# Altium schematic symbol library HPI1260-8R0.SchLib: 1 symbol
Pins are listed as number, name and electrical type; pins without a type are passive.

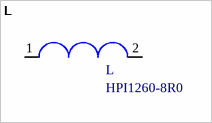
[diagram p0: symbol L]

## L
designator L, comment HPI1260-8R0
footprint INDM138126X51N (Molded Inductor, 2-Leads, Body 13,75x12,60mm, IPC Medium Density)
pins: 1, 2